# Altium integrated library LM1117T-3.3.IntLib: 1 symbol
Pins are listed as number, name and electrical type; pins without a type are passive.

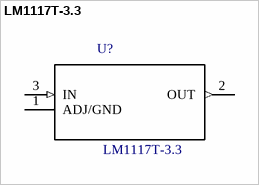
[diagram p0: symbol LM1117T-3.3]

## LM1117T-3.3
designator U?
/ Linear Voltage Regulator IC 1 Output 800mA TO-220-3 /; MF: Texas Instruments; Package: TO-220 Texas Instruments; MP: LM1117T-3.3; Availability: Unavailable; Price: None; SnapEDA_Link: https://www.snapeda.com/parts/LM1117T-3.3/Texas%20Instruments/view-part/103788/?ref=snap; Value: *
footprint *TO254P470X1016X2222-3P
pins: 1 ADJ/GND, 2 OUT (out), 3 IN (in)